# Altium schematic symbol library Telit.SchLib: 1 symbol
Pins are listed as number, name and electrical type; pins without a type are passive.

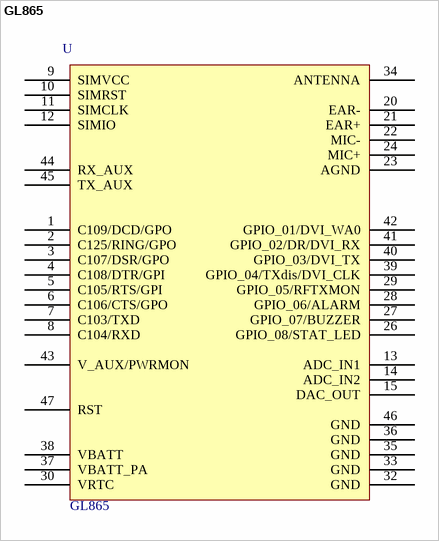
[diagram p0: symbol GL865]

## GL865
designator U  value GL865  (hidden comment: *)
Manufacturer: Telit
footprint GL865
pins: 1 C109/DCD/GPO, 2 C125/RING/GPO, 3 C107/DSR/GPO, 4 C108/DTR/GPI, 5 C105/RTS/GPI, 6 C106/CTS/GPO, 7 C103/TXD, 8 C104/RXD, 9 SIMVCC, 10 SIMRST, 11 SIMCLK, 12 SIMIO, 13 ADC_IN1, 14 ADC_IN2, 15 DAC_OUT, 20 EAR-, 21 EAR+, 22 MIC-, 23 AGND, 24 MIC+, 26 GPIO_08/STAT_LED, 27 GPIO_07/BUZZER, 28 GPIO_06/ALARM, 29 GPIO_05/RFTXMON, 30 VRTC, 32 GND, 33 GND, 34 ANTENNA, 35 GND, 36 GND, 37 VBATT_PA, 38 VBATT, 39 GPIO_04/TXdis/DVI_CLK, 40 GPIO_03/DVI_TX, 41 GPIO_02/DR/DVI_RX, 42 GPIO_01/DVI_WA0, 43 V_AUX/PWRMON, 44 RX_AUX, 45 TX_AUX, 46 GND, 47 RST